# EAGLE library part AWM_VIDEO_RECEIVER (library Modules)
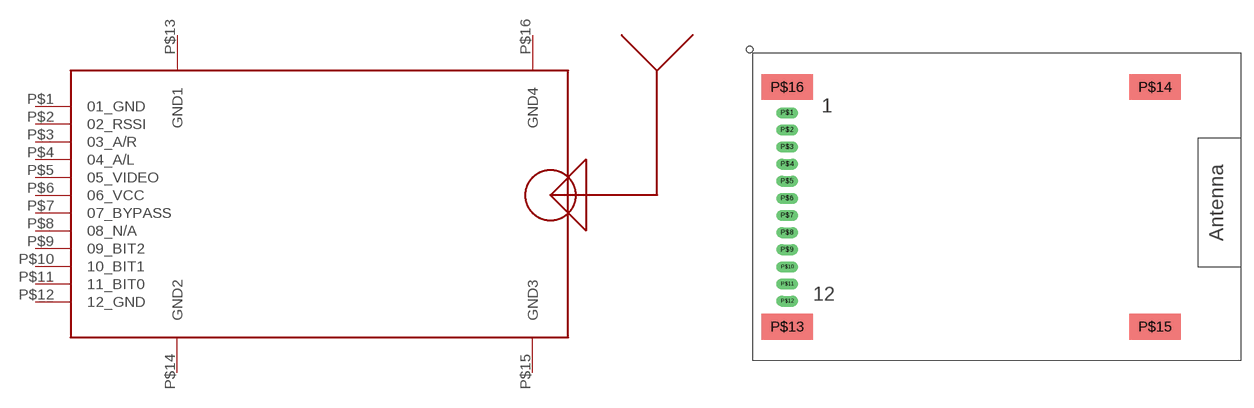
[diagram p0: symbol with the pads of AWM682; footprint AWM682]

Designator prefix -

## AWM_VIDEO_RECEIVER  [AWM682]
P$1  01_GND
P$2  02_RSSI
P$3  03_A/R
P$4  04_A/L
P$5  05_VIDEO
P$6  06_VCC
P$7  07_BYPASS
P$8  08_N/A
P$9  09_BIT2
P$10  10_BIT1
P$11  11_BIT0
P$12  12_GND
P$13  GND1
P$14  GND2
P$15  GND3
P$16  GND4

## Footprint AWM682 (pad centres in mm)
drill 0.8 long: P$1 0,11; P$2 0,9; P$3 0,7; P$4 0,5; P$5 0,3; P$6 0,1; P$7 0,-1; P$8 0,-3; P$9 0,-5; P$10 0,-7; P$11 0,-9; P$12 0,-11
smd 6 x 3: P$13 0,-14; P$14 43,14; P$15 43,-14; P$16 0,14